# Altium schematic symbol library Schlib1.SchLib: 67 symbols (part 2 of 2)

## NPB02SVAN-RC
designator LINK?, comment LINK  (mechanical)
2 Position Single Circuit 1.27 mm Center Close Top Jumper; Manufacturer: Sullins; Manufacturer Part Number: NPB02SVAN-RC; Number of Positions: 2; Pitch: 1.27mm; Supplier 1: Digikey; RoHS: Yes; Category: Connectors; Stock 1: 41389; Pricing 1: 1=0.28, 10=0.235, 25=0.2072, 50=0.1902, 100=0.1828, 250=0.16416, 500=0.1567, 1000=0.13058, 2500=0.11939 (USD); Contact Plating: Gold; Housing Material: Nylon; Packaging: Bulk; Series: -; Lead Free: Lead Free; RoHS Compliant: Yes; Flammability Rating: UL94 V-2; ComponentLink1URL: https://datasheet.ciiva.com/16472/270-page108-050-jumper-16472349.pdf?src-supplier=Future+Electronics; ComponentLink1Description: https://datasheet.ciiva.com/16472/270-page108-050-jumper-16472349.pdf?src-supplier=Future+Electronics; ComponentLink2URL: https://datasheet.ciiva.com/767/270-02svan-11499-767884.pdf?src-supplier=Digikey; ComponentLink2Description: https://datasheet.ciiva.com/767/270-02svan-11499-767884.pdf?src-supplier=Digikey; Supplier Part Number 1: S9345-ND

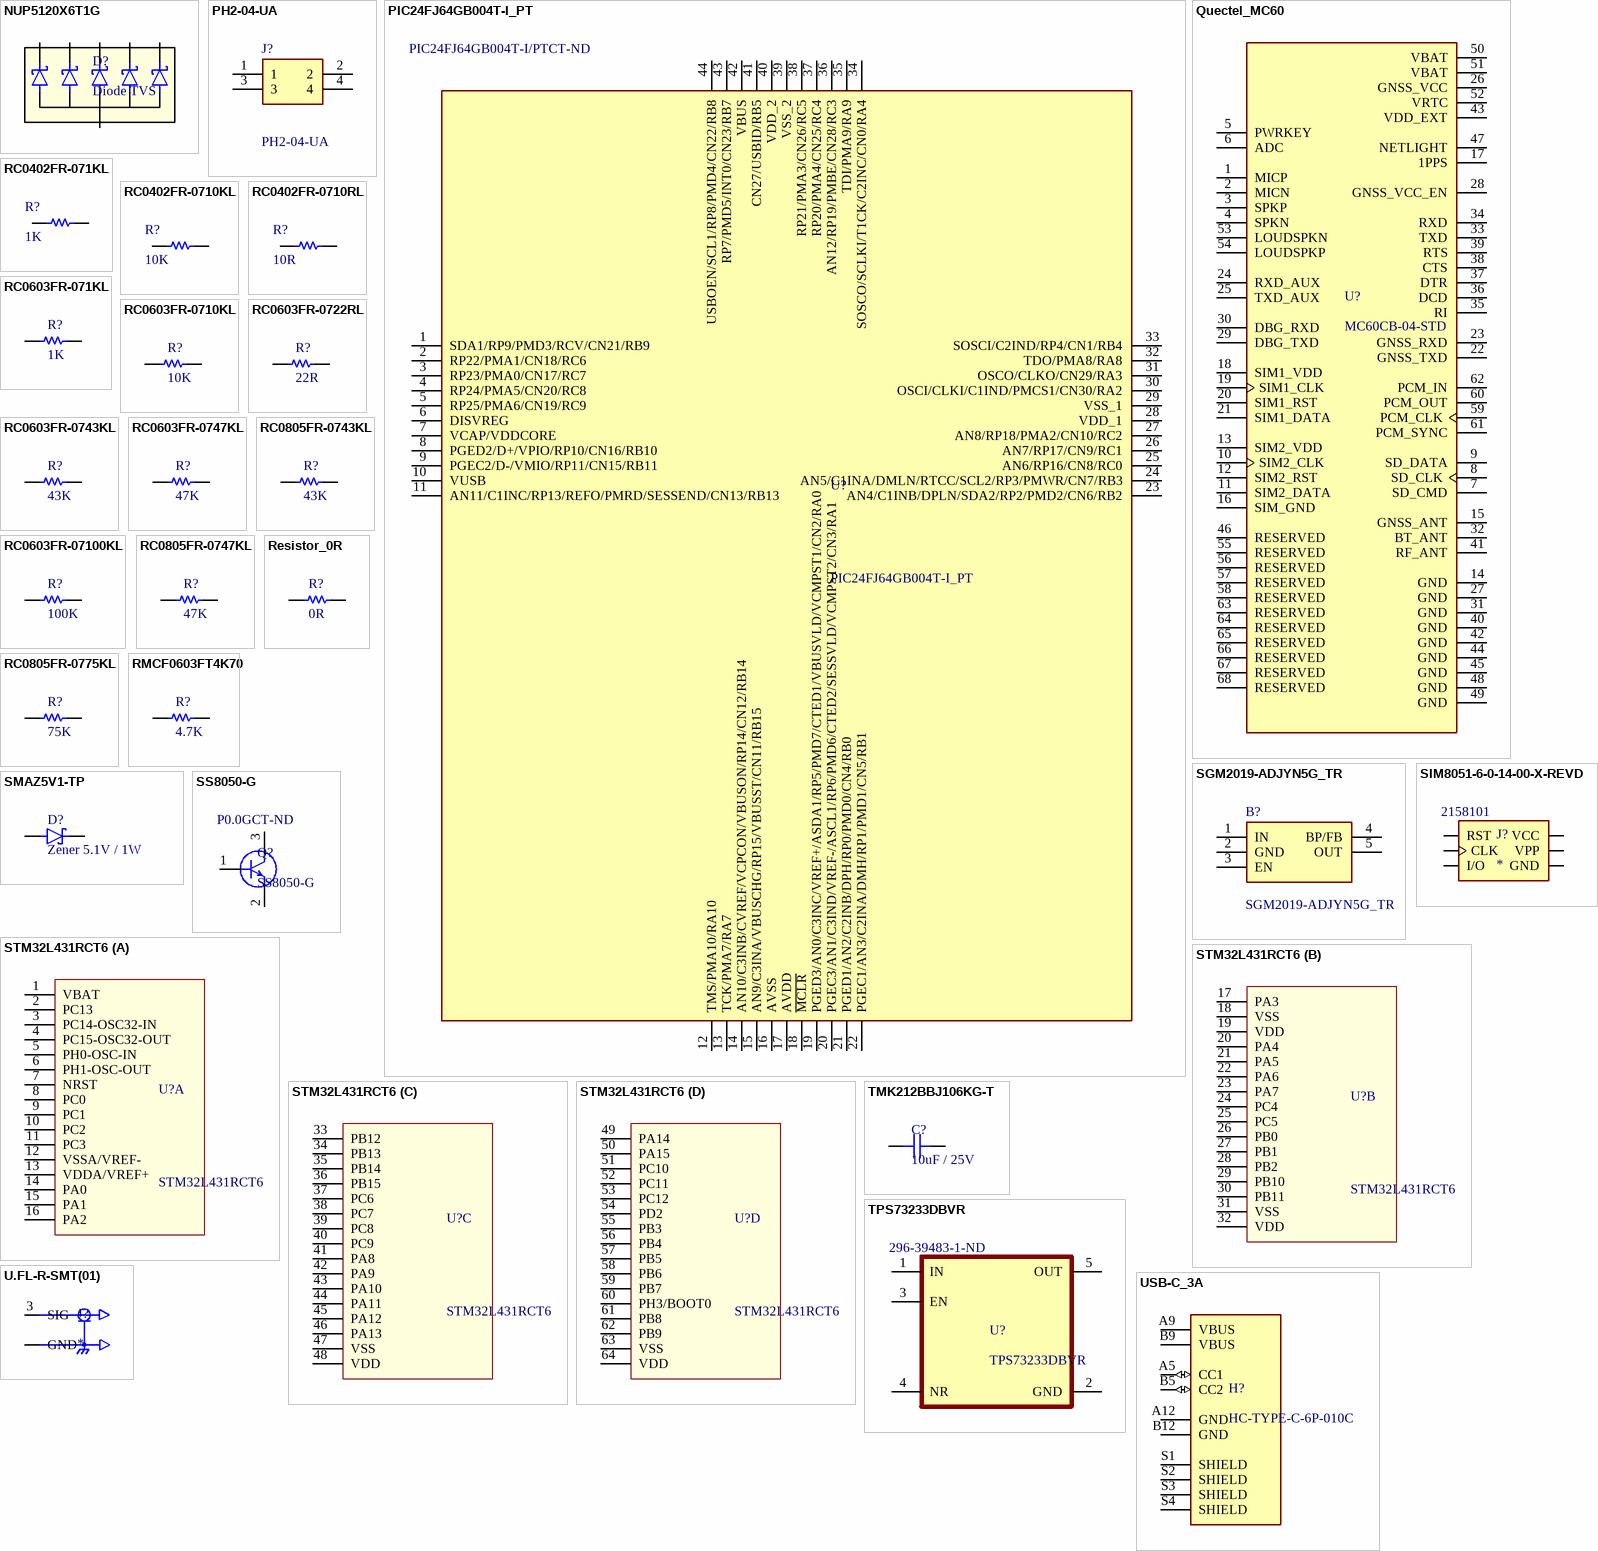
[diagram p1: symbols NUP5120X6T1G to USB-C_3A]

## NUP5120X6T1G
designator D?, comment Diode TVS
ESD Suppressor Diode TVS Uni-Dir 5V 6-Pin SOT-563 T/R / TVS DIODE 5VWM SOT563; Manufacturer: ON Semiconductor; Manufacturer Part Number: NUP5120X6T1G; Supplier 1: Digikey; RoHS: Yes; Category: ESD and Circuit Protection ICs; Stock 1: 14977; Pricing 1: 1=0.47, 10=0.328, 100=0.1658, 500=0.13526, 1000=0.10035, 2000=0.08443 (USD); ComponentLink1URL: https://datasheet.ciiva.com/11194/nup5120-d-11194101.pdf?src-supplier=Avnet; ComponentLink1Description: https://datasheet.ciiva.com/11194/nup5120-d-11194101.pdf?src-supplier=Avnet; ComponentLink2URL: https://datasheet.ciiva.com/4515/nup5120-d-98659-4515682.pdf?src-supplier=Mouser; ComponentLink2Description: https://datasheet.ciiva.com/4515/nup5120-d-98659-4515682.pdf?src-supplier=Mouser; ComponentLink3URL: https://datasheet.ciiva.com/353/nup5120-d-353835.pdf?src-supplier=Digikey; ComponentLink3Description: https://datasheet.ciiva.com/353/nup5120-d-353835.pdf?src-supplier=Digikey
footprint SOT50P160X60-6N
pins: 1 K, 2 A, 3 K, 4 K, 5 K, 6 K

## PH2-04-UA
designator J?
Conn Unshrouded Header HDR 4 POS 2.54mm Solder ST Thru-Hole; Manufacturer_Name: Adam Tech; Geometry.Height: 8.5mm; Mouser Part Number: *; Mouser Price/Stock: *; Manufacturer_Part_Number: PH2-04-UA; Datasheet Link: https://datasheet.datasheetarchive.com/originals/distributors/Datasheets_SAMA/c63e3fe101e7b6e3957e7ad4a1a98367.pdf; Supplier 1: Digikey; Supplier Part Number 1: 2057-PH2-04-UA-ND
footprint HDRV4W64P254_2X2_508X500X850P
pins: 1, 2, 3, 4

## PIC24FJ64GB004T-I_PT
designator U?  Supplier Part Number 1: PIC24FJ64GB004T-I/PTCT-ND
16-bit Microcontrollers - MCU 64KB Flash 8KB RAM nanoWatt; Manufacturer_Name: Microchip; Manufacturer_Part_Number: PIC24FJ64GB004T-I/PT; Geometry.Height: 1.2mm; Mouser Part Number: 579-FJ64GB004T-I/PT; Mouser Price/Stock: https://www.mouser.co.uk/ProductDetail/Microchip-Technology/PIC24FJ64GB004T-I-PT?qs=eGdm2IG0eygtV%252BmcU0v%252BEg%3D%3D; Datasheet Link: http://www.microchip.com/mymicrochip/filehandler.aspx?ddocname=en544251; Supplier 1: Digikey
footprint QFP80P1200X1200X120-44N
pins: 1 SDA1/RP9/PMD3/RCV/CN21/RB9, 2 RP22/PMA1/CN18/RC6, 3 RP23/PMA0/CN17/RC7, 4 RP24/PMA5/CN20/RC8, 5 RP25/PMA6/CN19/RC9, 6 DISVREG, 7 VCAP/VDDCORE, 8 PGED2/D+/VPIO/RP10/CN16/RB10, 9 PGEC2/D-/VMIO/RP11/CN15/RB11, 10 VUSB, 11 AN11/C1INC/RP13/REFO/PMRD/SESSEND/CN13/RB13, 12 TMS/PMA10/RA10, 13 TCK/PMA7/RA7, 14 AN10/C3INB/CVREF/VCPCON/VBUSON/RP14/CN12/RB14, 15 AN9/C3INA/VBUSCHG/RP15/VBUSST/CN11/RB15, 16 AVSS, 17 AVDD, 18 ~{MCLR}, 19 PGED3/AN0/C3INC/VREF+/ASDA1/RP5/PMD7/CTED1/VBUSVLD/VCMPST1/CN2/RA0, 20 PGEC3/AN1/C3IND/VREF-/ASCL1/RP6/PMD6/CTED2/SESSVLD/VCMPST2/CN3/RA1, 21 PGED1/AN2/C2INB/DPH/RP0/PMD0/CN4/RB0, 22 PGEC1/AN3/C2INA/DMH/RP1/PMD1/CN5/RB1, 23 AN4/C1INB/DPLN/SDA2/RP2/PMD2/CN6/RB2, 24 AN5/C1INA/DMLN/RTCC/SCL2/RP3/PMWR/CN7/RB3, 25 AN6/RP16/CN8/RC0, 26 AN7/RP17/CN9/RC1, 27 AN8/RP18/PMA2/CN10/RC2, 28 VDD_1, 29 VSS_1, 30 OSCI/CLKI/C1IND/PMCS1/CN30/RA2, 31 OSCO/CLKO/CN29/RA3, 32 TDO/PMA8/RA8, 33 SOSCI/C2IND/RP4/CN1/RB4, 34 SOSCO/SCLKI/T1CK/C2INC/CN0/RA4, 35 TDI/PMA9/RA9, 36 AN12/RP19/PMBE/CN28/RC3, 37 RP20/PMA4/CN25/RC4, 38 RP21/PMA3/CN26/RC5, 39 VSS_2, 40 VDD_2, 41 CN27/USBID/RB5, 42 VBUS, 43 RP7/PMD5/INT0/CN23/RB7, 44 USBOEN/SCL1/RP8/PMD4/CN22/RB8

## Quectel_MC60
designator U?, comment MC60CB-04-STD
Ultra-small LCC Quad-band GSM/GPRS/GNSS Module; Manufacturer: Quectel Wireless Solutions; MP: MC60; Availability: Unavailable; Package: None; Value: *; Price: None; Supplier 1: Digikey; Manufacturer Part Number: MC60CB-04-STD; RoHS: No; Pricing 1: 250=14.60876, 500=13.60124 (USD); ComponentLink1URL: https://datasheet.octopart.com/MC60CB-04-STD-Quectel-datasheet-163886073.pdf?src-supplier=SOS+electronic; ComponentLink1Description: https://datasheet.octopart.com/MC60CB-04-STD-Quectel-datasheet-163886073.pdf?src-supplier=SOS+electronic; Supplier Part Number 1: 2958-MC60CB-04-STDTR-ND; ComponentLink2Description: Reference Design; ComponentLink2URL: https://sisoog.com/wp-content/uploads/2020/01/Quectel_MC60_Reference_Design_Rev.B_20160801.pdf
footprint XCVR_MC60
pins: 1 MICP, 2 MICN, 3 SPKP, 4 SPKN, 5 PWRKEY, 6 ADC, 7 SD_CMD, 8 SD_CLK, 9 SD_DATA, 10 SIM2_CLK, 11 SIM2_DATA, 12 SIM2_RST, 13 SIM2_VDD, 14 GND, 15 GNSS_ANT, 16 SIM_GND, 17 1PPS, 18 SIM1_VDD, 19 SIM1_CLK, 20 SIM1_RST, 21 SIM1_DATA, 22 GNSS_TXD, 23 GNSS_RXD, 24 RXD_AUX, 25 TXD_AUX, 26 GNSS_VCC, 27 GND, 28 GNSS_VCC_EN, 29 DBG_TXD, 30 DBG_RXD, 31 GND, 32 BT_ANT, 33 TXD, 34 RXD, 35 RI, 36 DCD, 37 DTR, 38 CTS, 39 RTS, 40 GND, 41 RF_ANT, 42 GND, 43 VDD_EXT, 44 GND, 45 GND, 46 RESERVED, 47 NETLIGHT, 48 GND, 49 GND, 50 VBAT, 51 VBAT, 52 VRTC, 53 LOUDSPKN, 54 LOUDSPKP, 55 RESERVED, 56 RESERVED, 57 RESERVED, 58 RESERVED, 59 PCM_CLK, 60 PCM_OUT, 61 PCM_SYNC, 62 PCM_IN, 63 RESERVED, 64 RESERVED, 65 RESERVED, 66 RESERVED, 67 RESERVED, 68 RESERVED

## RC0402FR-071KL
designator R?, comment 1K
SMD Chip Resistor, 1 kOhm, ± 1%, 62.5 mW, 0402 [1005 Metric], Thick Film, General Purpose; Manufacturer: Yageo; Manufacturer Part Number: RC0402FR-071KL; Resistance: 1kR; Temperature Coefficient: 100ppm/°C; Voltage Rating (DC): 50V; Power Rating: 62.5mW; Max Power Dissipation: 63mW; Supplier 1: Digikey; RoHS: Yes; Category: Chip SMD Resistors; Stock 1: 13765092; Pricing 1: 1=0.1, 10=0.015, 50=0.0088, 100=0.0073, 500=0.00488, 1000=0.00417, 5000=0.00297 (USD); Case/Package: 0402; Number of Pins: 2; Case Code (Imperial): 0402; Case Code (Metric): 1005; Size Code: 0402; Min Operating Temperature: -55°C; Max Operating Temperature: 155°C; Tolerance: 1%; Resistor Type: Thick Film; Packaging: Tape and Reel; Voltage Rating: 50V; Termination: SMD/SMT; Features: Moisture Resistant; Series: RC; Number of Terminations: 2; Resistance Tolerance: 1%; Construction: Rectangular; Technology: THICK FILM; Voltage Rating (AC): 50V; Length: 1mm; Width: 0.5mm; Height: 0.32mm; Depth: 0.5mm; Reach SVHC Compliant: No; Lead Free: 5697LeadFree; RoHS Compliant: Yes; Military Standard: Not; ComponentLink1URL: https://datasheet.ciiva.com/11819/0900766b80c66297-11819477.pdf?src-supplier=Rs; ComponentLink1Description: https://datasheet.ciiva.com/11819/0900766b80c66297-11819477.pdf?src-supplier=Rs; ComponentLink2URL: https://datasheet.ciiva.com/7983/1018594-7983502.pdf?src-supplier=Element14; ComponentLink2Description: https://datasheet.ciiva.com/7983/1018594-7983502.pdf?src-supplier=Element14; ComponentLink3URL: https://datasheet.ciiva.com/22747/1018594-22747513.pdf?src-supplier=Element14; ComponentLink3Description: https://datasheet.ciiva.com/22747/1018594-22747513.pdf?src-supplier=Element14; ComponentLink4URL: https://datasheet.ciiva.com/12666/pyu-rc0402-51-rohs-l-6-r-12666741.pdf?src-supplier=Mouser; ComponentLink4Description: https://datasheet.ciiva.com/12666/pyu-rc0402-51-rohs-l-6-r-12666741.pdf?src-supplier=Mouser; ComponentLink5URL: https://datasheet.ciiva.com/7849/1018594-7849869.pdf?src-supplier=Element14; ComponentLink5Description: https://datasheet.ciiva.com/7849/1018594-7849869.pdf?src-supplier=Element14; ComponentLink6URL: https://datasheet.ciiva.com/7849/1018594-7849871.pdf?src-supplier=Element14; ComponentLink6Description: https://datasheet.ciiva.com/7849/1018594-7849871.pdf?src-supplier=Element14; ComponentLink7URL: https://datasheet.ciiva.com/17063/pyu-rc0402-51-rohs-l-6-r-17063193.pdf?src-supplier=Future+Electronics; ComponentLink7Description: https://datasheet.ciiva.com/17063/pyu-rc0402-51-rohs-l-6-r-17063193.pdf?src-supplier=Future+Electronics; Supplier Part Number 1: 311-1.00KLRCT-ND
footprint RC0402N_PAN
pins: 1, 2

## RC0402FR-0710KL
designator R?, comment 10K
SMD Chip Resistor, 10 kOhm, ± 1%, 62.5 mW, 0402 [1005 Metric], Thick Film, General Purpose; Manufacturer: Yageo; Manufacturer Part Number: RC0402FR-0710KL; Voltage Rating (DC): 50V; Resistance: 10kR; Temperature Coefficient: 100ppm/°C; Power Rating: 62.5mW; Max Power Dissipation: 63mW; Supplier 1: Digikey; RoHS: Yes; Category: Chip SMD Resistors; Stock 1: 8451963; Pricing 1: 1=0.1, 10=0.015, 50=0.0088, 100=0.0073, 500=0.00488, 1000=0.00417, 5000=0.00297 (USD); Case/Package: 0402; Number of Pins: 2; Case Code (Imperial): 0402; Case Code (Metric): 1005; Min Operating Temperature: -55°C; Max Operating Temperature: 155°C; Voltage Rating: 50V; Tolerance: 1%; Packaging: Tape and Reel; Termination: SMD/SMT; Resistor Type: Thick Film; Series: RC; Number of Terminations: 2; Features: Moisture Resistant; Resistance Tolerance: 1%; Construction: Rectangular; Length: 1mm; Width: 0.5mm; Depth: 0.5mm; Lead Pitch: 0.2mm; Reach SVHC Compliant: Unknown; Lead Free: 5697LeadFree; RoHS Compliant: Yes; Military Standard: Not; Supplier Part Number 1: 311-10.0KLRCT-ND
footprint RC0402N_PAN
pins: 1, 2

## RC0402FR-0710RL
designator R?, comment 10R
SMD Chip Resistor, 10 Ohm, ± 1%, 62.5 mW, 0402 [1005 Metric], Thick Film, General Purpose; Manufacturer: Yageo; Manufacturer Part Number: RC0402FR-0710RL; Power Rating: 62.5mW; Voltage Rating: 50V; Temperature Coefficient: 200ppm/°C; Max Power Dissipation: 63mW; Supplier 1: Digikey; RoHS: Yes; Category: Chip SMD Resistors; Stock 1: 1945114; Pricing 1: 1=0.1, 10=0.021, 50=0.013, 100=0.0107, 500=0.00714, 1000=0.0061, 5000=0.00438 (USD); Case/Package: 0402; Case Code (Imperial): 0402; Case Code (Metric): 1005; Min Operating Temperature: -55°C; Max Operating Temperature: 155°C; Tolerance: 1%; Resistance: 10R; Packaging: Tape and Reel; Termination: SMD/SMT; Resistor Type: Thick Film; Working Voltage: 50V; Number of Terminations: 2; Features: Moisture Resistant; Series: RC; Resistance Tolerance: 1%; Technology: THICK FILM; Construction: Rectangular; Voltage Rating (AC): 50V; Length: 1mm; Height: 0.32mm; Depth: 0.5mm; Reach SVHC Compliant: No; Military Standard: Not; Lead Free: Lead Free; RoHS Compliant: Yes; ComponentLink1URL: https://datasheet.ciiva.com/11808/0900766b80c66297-11808764.pdf?src-supplier=Rs; ComponentLink1Description: https://datasheet.ciiva.com/11808/0900766b80c66297-11808764.pdf?src-supplier=Rs; ComponentLink2URL: https://datasheet.ciiva.com/46394/1018594-46394954.pdf?src-supplier=Element14; ComponentLink2Description: https://datasheet.ciiva.com/46394/1018594-46394954.pdf?src-supplier=Element14; ComponentLink3URL: https://datasheet.ciiva.com/7849/1018594-7849818.pdf?src-supplier=Element14; ComponentLink3Description: https://datasheet.ciiva.com/7849/1018594-7849818.pdf?src-supplier=Element14; ComponentLink4URL: https://datasheet.ciiva.com/7849/1018594-7849819.pdf?src-supplier=Element14; ComponentLink4Description: https://datasheet.ciiva.com/7849/1018594-7849819.pdf?src-supplier=Element14; ComponentLink5URL: https://datasheet.ciiva.com/15189/getdatasheetpartid-323697-15189339.pdf?src-supplier=Verical; ComponentLink5Description: https://datasheet.ciiva.com/15189/getdatasheetpartid-323697-15189339.pdf?src-supplier=Verical; Supplier Part Number 1: 311-10.0LRCT-ND
footprint RC0402N_PAN
pins: 1, 2

## RC0603FR-071KL
designator R?, comment 1K
SMD Chip Resistor, 1 kOhm, ± 1%, 100 mW, 0603 [1608 Metric], Thick Film, General Purpose; Manufacturer: Yageo; Manufacturer Part Number: RC0603FR-071KL; Resistance: 1kR; Temperature Coefficient: 100ppm/°C; Power Rating: 100mW; Voltage Rating: 50V; Supplier 1: Digikey; RoHS: Yes; Category: Chip SMD Resistors; Stock 1: 13363527; Pricing 1: 1=0.1, 10=0.019, 50=0.0112, 100=0.0093, 500=0.00622, 1000=0.00532 (USD); Case/Package: 0603; Contact Plating: Tin,Matte; Case Code (Imperial): 0603; Case Code (Metric): 1608; Size Code: 0603; Min Operating Temperature: -55°C; Max Operating Temperature: 155°C; Tolerance: 1%; Resistor Type: Thick Film; Packaging: Tape and Reel; Termination: SMD/SMT; Features: Moisture Resistant; Series: RC; Max Power Dissipation: 100mW; Number of Terminations: 2; Technology: THICK FILM; Resistance Tolerance: 1%; Construction: Rectangular; Length: 1.6mm; Height: 0.45mm; Depth: 0.8mm; Reach SVHC Compliant: No; Lead Free: 5697LeadFree; Military Standard: Not; RoHS Compliant: Yes; Supplier Part Number 1: 311-1.00KHRCT-ND
footprint R0603
pins: 1, 2

## RC0603FR-0710KL
designator R?, comment 10K
SMD Chip Resistor, 10 kOhm, ± 1%, 100 mW, 0603 [1608 Metric], Thick Film, General Purpose; Manufacturer: Yageo; Manufacturer Part Number: RC0603FR-0710KL; Voltage Rating (DC): 50V; Resistance: 10kR; Temperature Coefficient: 100ppm/°C; Power Rating: 100mW; Voltage Rating: 75V; Supplier 1: Digikey; RoHS: Yes; Category: Chip SMD Resistors; Stock 1: 17747695; Pricing 1: 1=0.1, 10=0.019, 50=0.0112, 100=0.0093, 500=0.00622, 1000=0.00532 (USD); Case/Package: 0603; Number of Pins: 2; Case Code (Imperial): 0603; Case Code (Metric): 1608; Weight: 7.1E-05oz; Size Code: 0603; Min Operating Temperature: -55°C; Max Operating Temperature: 155°C; Tolerance: 1%; Resistor Type: Thick Film; Packaging: Tape and Reel; Termination: SMD/SMT; Features: Moisture Resistant; Series: RC; Max Power Dissipation: 100mW; Number of Terminations: 2; Resistance Tolerance: 1%; Construction: Rectangular; Length: 1.6mm; Width: 0.8mm; Height: 0.45mm; Depth: 0.8mm; Lead Pitch: 0.3mm; Reach SVHC Compliant: No; Lead Free: 5697LeadFree; Military Standard: Not; RoHS Compliant: Yes; ComponentLink1URL: https://datasheet.ciiva.com/7660/38590-7660789.pdf?src-supplier=Element14; ComponentLink1Description: https://datasheet.ciiva.com/7660/38590-7660789.pdf?src-supplier=Element14; ComponentLink2URL: https://datasheet.ciiva.com/7983/443971-7983596.pdf?src-supplier=Element14; ComponentLink2Description: https://datasheet.ciiva.com/7983/443971-7983596.pdf?src-supplier=Element14; ComponentLink3URL: https://datasheet.ciiva.com/22747/443971-22747519.pdf?src-supplier=Element14; ComponentLink3Description: https://datasheet.ciiva.com/22747/443971-22747519.pdf?src-supplier=Element14; ComponentLink4URL: https://datasheet.ciiva.com/46440/1868787-46440891.pdf?src-supplier=Element14; ComponentLink4Description: https://datasheet.ciiva.com/46440/1868787-46440891.pdf?src-supplier=Element14; ComponentLink5URL: https://datasheet.ciiva.com/7746/1738695-7746239.pdf?src-supplier=Element14; ComponentLink5Description: https://datasheet.ciiva.com/7746/1738695-7746239.pdf?src-supplier=Element14; ComponentLink6URL: https://datasheet.ciiva.com/15189/getdatasheetpartid-409289-15189591.pdf?src-supplier=Verical; ComponentLink6Description: https://datasheet.ciiva.com/15189/getdatasheetpartid-409289-15189591.pdf?src-supplier=Verical; Supplier Part Number 1: 311-10.0KHRCT-ND
footprint R0603
pins: 1, 2

## RC0603FR-0722RL
designator R?, comment 22R
SMD Chip Resistor, 22 Ohm, ± 1%, 100 mW, 0603 [1608 Metric], Thick Film, General Purpose; Manufacturer: Yageo; Manufacturer Part Number: RC0603FR-0722RL; Temperature Coefficient: 100ppm/°C; Voltage Rating (DC): 50V; Power Rating: 100mW; Output Current: 8A; Min Input Voltage: 1.4V; Supplier 1: Digikey; RoHS: Yes; Category: Chip SMD Resistors; Stock 1: 2919304; Pricing 1: 1=0.1, 10=0.019, 50=0.0112, 100=0.0093, 500=0.00622, 1000=0.00532 (USD); Case/Package: 0603; Number of Pins: 2; Case Code (Metric): 1608; Case Code (Imperial): 0603; Size Code: 0603; Min Operating Temperature: -55°C; Max Operating Temperature: 155°C; Tolerance: 1%; Resistance: 22R; Resistor Type: Thick Film; Packaging: Tape and Reel; Voltage Rating: 50V; Package Quantity: 1; Number of Terminations: 2; Termination: SMD/SMT; Max Power Dissipation: 100mW; Features: Moisture Resistant; Series: RC; Resistance Tolerance: 1%; Technology: THICK FILM; Construction: Rectangular; Voltage Rating (AC): 50V; Max Output Current: 8A; Length: 0.063inch; Width: 0.031inch; Height: 0.022inch; Depth: 0.8mm; Radiation Hardening: 5898YesNo; Reach SVHC Compliant: No; Lead Free: 5697LeadFree; Military Standard: Not; RoHS Compliant: Yes; ComponentLink1URL: https://datasheet.ciiva.com/11819/0900766b80f96399-11819285.pdf?src-supplier=Rs; ComponentLink1Description: https://datasheet.ciiva.com/11819/0900766b80f96399-11819285.pdf?src-supplier=Rs; ComponentLink2URL: https://datasheet.ciiva.com/46395/443971-46395032.pdf?src-supplier=Element14; ComponentLink2Description: https://datasheet.ciiva.com/46395/443971-46395032.pdf?src-supplier=Element14; ComponentLink3URL: https://datasheet.ciiva.com/46440/1868787-46440901.pdf?src-supplier=Element14; ComponentLink3Description: https://datasheet.ciiva.com/46440/1868787-46440901.pdf?src-supplier=Element14; ComponentLink4URL: https://datasheet.ciiva.com/2454/pyu-r-int-thick-7-2454355.pdf?src-supplier=Digikey; ComponentLink4Description: https://datasheet.ciiva.com/2454/pyu-r-int-thick-7-2454355.pdf?src-supplier=Digikey; ComponentLink5URL: https://datasheet.ciiva.com/2454/pyu-r-int-thick-7-2454356.pdf?src-supplier=Digikey; ComponentLink5Description: https://datasheet.ciiva.com/2454/pyu-r-int-thick-7-2454356.pdf?src-supplier=Digikey; ComponentLink6URL: https://datasheet.ciiva.com/2454/pyu-r-int-thick-7-2454354.pdf?src-supplier=Digikey; ComponentLink6Description: https://datasheet.ciiva.com/2454/pyu-r-int-thick-7-2454354.pdf?src-supplier=Digikey; Supplier Part Number 1: 311-22.0HRCT-ND
footprint R0603
pins: 1, 2

## RC0603FR-0743KL
designator R?, comment 43K
SMD Chip Resistor, 43 kOhm, ± 1%, 100 mW, 0603 [1608 Metric], Thick Film, General Purpose; Manufacturer: Yageo; Manufacturer Part Number: RC0603FR-0743KL; Supplier 1: Digikey; RoHS: Yes; Category: Chip SMD Resistors; Stock 1: 247984; Pricing 1: 1=0.1, 10=0.02, 50=0.012, 100=0.0099, 500=0.00662, 1000=0.00565 (USD); ComponentLink1URL: https://datasheet.ciiva.com/2454/pyu-r-int-thick-7-2454879.pdf?src-supplier=Digikey; ComponentLink1Description: https://datasheet.ciiva.com/2454/pyu-r-int-thick-7-2454879.pdf?src-supplier=Digikey; ComponentLink2URL: https://datasheet.ciiva.com/2454/pyu-r-int-thick-7-2454880.pdf?src-supplier=Digikey; ComponentLink2Description: https://datasheet.ciiva.com/2454/pyu-r-int-thick-7-2454880.pdf?src-supplier=Digikey; ComponentLink3URL: https://datasheet.ciiva.com/2454/pyu-r-int-thick-7-2454881.pdf?src-supplier=Digikey; ComponentLink3Description: https://datasheet.ciiva.com/2454/pyu-r-int-thick-7-2454881.pdf?src-supplier=Digikey; ComponentLink4URL: https://datasheet.ciiva.com/12558/rc0603-272842-12558507.pdf?src-supplier=Mouser; ComponentLink4Description: https://datasheet.ciiva.com/12558/rc0603-272842-12558507.pdf?src-supplier=Mouser; Supplier Part Number 1: 311-43.0KHRCT-ND
footprint R0603
pins: 1, 2

## RC0603FR-0747KL
designator R?, comment 47K
SMD Chip Resistor, 47 kOhm, ± 1%, 100 mW, 0603 [1608 Metric], Thick Film, General Purpose; Manufacturer: Yageo; Manufacturer Part Number: RC0603FR-0747KL; Resistance: 47kR; Temperature Coefficient: 100ppm/°C; Voltage Rating (DC): 50V; Power Rating: 100mW; Capacitance: 18pF; Supplier 1: Digikey; RoHS: Yes; Category: Chip SMD Resistors; Stock 1: 9355350; Pricing 1: 1=0.1, 10=0.019, 50=0.0112, 100=0.0093, 500=0.00622, 1000=0.00532 (USD); Case/Package: 0603; Number of Pins: 2; Case Code (Metric): 1608; Case Code (Imperial): 0603; Size Code: 0603; Min Operating Temperature: -55°C; Max Operating Temperature: 155°C; Tolerance: 1%; Resistor Type: Thick Film; Packaging: Tape and Reel; Voltage Rating: 50V; Package Quantity: 1; Number of Terminations: 2; Termination: SMD/SMT; Max Power Dissipation: 100mW; Features: Moisture Resistant; Series: RC; Resistance Tolerance: 1%; Technology: THICK FILM; Voltage Rating (AC): 50V; Length: 0.063inch; Width: 0.031inch; Height: 0.022inch; Depth: 0.8mm; Radiation Hardening: 5898YesNo; Reach SVHC Compliant: Unknown; Lead Free: 5697LeadFree; RoHS Compliant: Yes; Supplier Part Number 1: 311-47.0KHRCT-ND
footprint R0603
pins: 1, 2

## RC0603FR-07100KL
designator R?, comment 100K
SMD Chip Resistor, 100 kOhm, ± 1%, 100 mW, 0603 [1608 Metric], Thick Film, General Purpose; Manufacturer: Yageo; Manufacturer Part Number: RC0603FR-07100KL; Resistance: 100kR; Temperature Coefficient: 100ppm/°C; Voltage Rating (DC): 50V; Power Rating: 100mW; Supplier 1: Digikey; RoHS: Yes; Category: Chip SMD Resistors; Stock 1: 2947780; Pricing 1: 1=0.1, 10=0.019, 50=0.0112, 100=0.0093, 500=0.00622, 1000=0.00532 (USD); Case/Package: 0603; Number of Pins: 2; Case Code (Imperial): 0603; Case Code (Metric): 1608; Min Operating Temperature: -55°C; Max Operating Temperature: 155°C; Tolerance: 1%; Resistor Type: Thick Film; Packaging: Tape and Reel; Voltage Rating: 50V; Termination: SMD/SMT; Number of Terminations: 2; Features: Moisture Resistant; Series: RC; Max Power Dissipation: 100mW; Resistance Tolerance: 1%; Construction: Rectangular; Technology: THICK FILM; Length: 1.6mm; Width: 0.8mm; Height: 0.45mm; Depth: 0.8mm; Reach SVHC Compliant: No; Lead Free: 5697LeadFree; Military Standard: Not; RoHS Compliant: Yes; Supplier Part Number 1: 311-100KHRCT-ND
footprint R0603
pins: 1, 2

## RC0805FR-0743KL
designator R?, comment 43K
Res Thick Film 0805 43K Ohm 1% 0.125W(1/8W) ±100ppm/C Pad SMD T/R; Manufacturer: Yageo; Manufacturer Part Number: RC0805FR-0743KL; Supplier 1: Digikey; RoHS: Yes; Category: Chip SMD Resistors; Stock 1: 332979; Pricing 1: 1=0.1, 10=0.025, 50=0.016, 100=0.0133, 500=0.00912, 1000=0.00787 (USD); ComponentLink1URL: https://datasheet.ciiva.com/11819/0900766b8106beab-11819846.pdf?src-supplier=Rs; ComponentLink1Description: https://datasheet.ciiva.com/11819/0900766b8106beab-11819846.pdf?src-supplier=Rs; ComponentLink2URL: https://datasheet.ciiva.com/2491/pyu-r-int-thick-7-2491684.pdf?src-supplier=Digikey; ComponentLink2Description: https://datasheet.ciiva.com/2491/pyu-r-int-thick-7-2491684.pdf?src-supplier=Digikey; ComponentLink3URL: https://datasheet.ciiva.com/2491/pyu-r-int-thick-7-2491686.pdf?src-supplier=Digikey; ComponentLink3Description: https://datasheet.ciiva.com/2491/pyu-r-int-thick-7-2491686.pdf?src-supplier=Digikey; ComponentLink4URL: https://datasheet.ciiva.com/5558/rc0805-5558262.pdf?src-supplier=Mouser; ComponentLink4Description: https://datasheet.ciiva.com/5558/rc0805-5558262.pdf?src-supplier=Mouser; ComponentLink5URL: https://datasheet.ciiva.com/2491/pyu-r-int-thick-7-2491685.pdf?src-supplier=Digikey; ComponentLink5Description: https://datasheet.ciiva.com/2491/pyu-r-int-thick-7-2491685.pdf?src-supplier=Digikey; Supplier Part Number 1: 311-43.0KCRCT-ND
footprint R0805
pins: 1, 2

## RC0805FR-0747KL
designator R?, comment 47K
SMD Chip Resistor, 47 kOhm, ± 1%, 125 mW, 0805 [2012 Metric], Thick Film, General Purpose; Manufacturer: Yageo; Manufacturer Part Number: RC0805FR-0747KL; Resistance: 47kR; Temperature Coefficient: 100ppm/°C; Voltage Rating (DC): 150V; Power Rating: 125mW; Supplier 1: Digikey; RoHS: Yes; Category: Chip SMD Resistors; Stock 1: 554330; Pricing 1: 1=0.1, 10=0.025, 50=0.016, 100=0.0133, 500=0.00912, 1000=0.00787 (USD); Case/Package: 0805; Number of Pins: 2; Contact Plating: Tin,Matte; Case Code (Imperial): 0805; Case Code (Metric): 2012; Size Code: 0805; Min Operating Temperature: -55°C; Max Operating Temperature: 155°C; Tolerance: 1%; Packaging: Tape and Reel; Resistor Type: Thick Film; Number of Terminations: 2; Working Voltage: 150V; Voltage Rating: 150V; Termination: SMD/SMT; Features: Moisture Resistant; Series: RC; Max Power Dissipation: 125mW; Resistance Tolerance: 1%; Voltage Rating (AC): 150V; Length: 2mm; Width: 1.25mm; Height: 0.5mm; Reach SVHC Compliant: Unknown; Lead Free: 5697LeadFree; RoHS Compliant: Yes; ComponentLink1URL: https://datasheet.ciiva.com/7941/1686128-7941799.pdf?src-supplier=Element14; ComponentLink1Description: https://datasheet.ciiva.com/7941/1686128-7941799.pdf?src-supplier=Element14; ComponentLink2URL: https://datasheet.ciiva.com/46447/444164-46447581.pdf?src-supplier=Element14; ComponentLink2Description: https://datasheet.ciiva.com/46447/444164-46447581.pdf?src-supplier=Element14; ComponentLink3URL: https://datasheet.ciiva.com/7941/444164-7941800.pdf?src-supplier=Element14; ComponentLink3Description: https://datasheet.ciiva.com/7941/444164-7941800.pdf?src-supplier=Element14; ComponentLink4URL: https://datasheet.ciiva.com/7941/444164-7941801.pdf?src-supplier=Element14; ComponentLink4Description: https://datasheet.ciiva.com/7941/444164-7941801.pdf?src-supplier=Element14; ComponentLink5URL: https://datasheet.ciiva.com/16742/rc0805-16742265.pdf?src-supplier=Future+Electronics; ComponentLink5Description: https://datasheet.ciiva.com/16742/rc0805-16742265.pdf?src-supplier=Future+Electronics; Supplier Part Number 1: 311-47.0KCRCT-ND
footprint R0805
pins: 1, 2

## RC0805FR-0775KL
designator R?, comment 75K
SMD Chip Resistor, 75 kOhm, ± 1%, 125 mW, 0805 [2012 Metric], Thick Film, General Purpose; Manufacturer: Yageo; Manufacturer Part Number: RC0805FR-0775KL; Voltage Rating (DC): 150V; Supplier 1: Digikey; RoHS: Yes; Category: Chip SMD Resistors; Stock 1: 146339; Pricing 1: 1=0.1, 10=0.025, 50=0.016, 100=0.0133, 500=0.00912, 1000=0.00787 (USD); Lead Free: 5697LeadFree; ComponentLink1URL: https://datasheet.ciiva.com/11819/0900766b8106beab-11819869.pdf?src-supplier=Rs; ComponentLink1Description: https://datasheet.ciiva.com/11819/0900766b8106beab-11819869.pdf?src-supplier=Rs; ComponentLink2URL: https://datasheet.ciiva.com/15190/getdatasheetpartid-328011-15190012.pdf?src-supplier=Verical; ComponentLink2Description: https://datasheet.ciiva.com/15190/getdatasheetpartid-328011-15190012.pdf?src-supplier=Verical; ComponentLink3URL: https://datasheet.ciiva.com/2458/pyu-r-int-thick-7-2458028.pdf?src-supplier=Digikey; ComponentLink3Description: https://datasheet.ciiva.com/2458/pyu-r-int-thick-7-2458028.pdf?src-supplier=Digikey; ComponentLink4URL: https://datasheet.ciiva.com/2458/pyu-r-int-thick-7-2458029.pdf?src-supplier=Digikey; ComponentLink4Description: https://datasheet.ciiva.com/2458/pyu-r-int-thick-7-2458029.pdf?src-supplier=Digikey; ComponentLink5URL: https://datasheet.ciiva.com/2458/pyu-r-int-thick-7-2458030.pdf?src-supplier=Digikey; ComponentLink5Description: https://datasheet.ciiva.com/2458/pyu-r-int-thick-7-2458030.pdf?src-supplier=Digikey; Supplier Part Number 1: 311-75.0KCRCT-ND
footprint R0805
pins: 1, 2

## Resistor_0R
designator R?, comment 0R
Res Thick Film 0805 0 Ohm 1% 1/8W ±100ppm/°C SMD Paper T/R; Manufacturer: Yageo; Manufacturer Part Number: RC0805FR-132K2L; Power Rating: 125mW; Voltage Rating: 150V; Supplier 1: Digi-Key; Stock 1: 71554; Pricing 1: 1=0.1, 10=0.042, 100=0.0169, 1000=0.0076, 2500=0.0066, 5000=0.0054 (USD); Case/Package: 0805; Contact Plating: Tin,Lead; Case Code (Imperial): 0805; Case Code (Metric): 2012; Min Operating Temperature: -55°C; Max Operating Temperature: 155°C; Resistance: 0R; Tolerance: 1%; Resistor Type: Thick Film; Temperature Coefficient: 100ppm/°C; Packaging: Tape and Reel; Termination: SMD/SMT; Series: RC; Length: 2mm; Width: 1.25mm; Height: 0.5mm; Radiation Hardening: No; RoHS Compliant: Yes; ComponentLink1URL: http://www.mouser.com/ds/2/447/Yageo_08112016_RC0805-968729.pdf?src-supplier=Mouser; ComponentLink1Description: http://www.mouser.com/ds/2/447/Yageo_08112016_RC0805-968729.pdf?src-supplier=Mouser; Supplier Part Number 1: 13-RC0805FR-132K2LCT-ND
footprint C0805
pins: 1, 2

## RMCF0603FT4K70
designator R?, comment 4.7K
Res Thick Film 0603 4.7K Ohm 1% 1/10W ±100ppm/°C Molded SMD SMD Paper T/R; Manufacturer: Stackpole Electronics; Manufacturer Part Number: RMCF0603FT4K70; Resistance: 4.7kR; Max Power Dissipation: 100mW; Voltage Rating: 75V; Supplier 1: Digikey; RoHS: Yes; Category: Chip SMD Resistors; Stock 1: 1551594; Pricing 1: 1=0.1, 10=0.015, 50=0.009, 100=0.0075, 500=0.00498, 1000=0.00425 (USD); Mount: Surface Mount; Case/Package: 0603; Case Code (Metric): 1608; Case Code (Imperial): 0603; Contact Plating: Tin,Matte; Min Operating Temperature: -55°C; Max Operating Temperature: 155°C; Packaging: Tape and Reel; Tolerance: 1%; Number of Terminations: 2; Temperature Coefficient: 100ppm/°C; Features: Automotive AEC-Q200; Series: RMCF; Construction: Rectangular; Length: 0.061inch; Width: 0.031inch; Height: 0.022inch; Depth: 0.8mm; Radiation Hardening: No; Military Standard: Not; Lead Free: Lead Free; RoHS Compliant: Yes; ComponentLink1URL: https://datasheet.ciiva.com/26835/getdatasheetpartid-486078-26835642.pdf?src-supplier=Verical; ComponentLink1Description: https://datasheet.ciiva.com/26835/getdatasheetpartid-486078-26835642.pdf?src-supplier=Verical; Supplier Part Number 1: RMCF0603FT4K70CT-ND
footprint R0603
pins: 1, 2

## SGM2019-ADJYN5G_TR
designator B?
st; Manufacturer_Name: SGMICRO; Manufacturer_Part_Number: SGM2019-ADJYN5G/TR; Geometry.Height: 1.25mm; Arrow Part Number: SGM2019-ADJYN5G/TR; Arrow Price/Stock: *; Datasheet Link: *
footprint SOT95P280X125-5N
pins: 1 IN, 2 GND, 3 EN, 4 BP/FB, 5 OUT

## SIM8051-6-0-14-00-X-REVD
designator J?  Supplier Part Number 1: 2158101
SIM Nano Push Pull 6P1.35mmH with Logo 3µ" Gold No Peg; Manufacturer: Global Connector Technology; Manufacturer Part Number: SIM8051-6-0-14-00-A; MP: SIM8051-6-0-14-00-X-REVD; Price: None; Value: *; Package: None; Availability: Unavailable; Supplier 1: Future Electronics; RoHS: Yes; Category: Connectors; Pricing 1: 1500=0.52, 3000=0.51, 4500=0.5 (USD); ComponentLink1URL: https://datasheet.octopart.com/SIM8051-6-0-14-00-A-Global-Connector-Technology-datasheet-78375543.pdf?src-supplier=Future+Electronics; ComponentLink1Description: https://datasheet.octopart.com/SIM8051-6-0-14-00-A-Global-Connector-Technology-datasheet-78375543.pdf?src-supplier=Future+Electronics; ComponentLink2URL: https://gct.co/files/drawings/sim8051.pdf?src-supplier=Digikey; ComponentLink2Description: https://gct.co/files/drawings/sim8051.pdf?src-supplier=Digikey; ComponentLink3URL: https://datasheet.octopart.com/SIM8051-6-0-14-00-A-Global-Connector-Technology-datasheet-91940710.pdf?src-supplier=Newark; ComponentLink3Description: https://datasheet.octopart.com/SIM8051-6-0-14-00-A-Global-Connector-Technology-datasheet-91940710.pdf?src-supplier=Newark; ComponentLink4Description: Shop; ComponentLink4URL: https://eshop.eca.ir/%D8%B3%D9%88%DA%A9%D8%AA-%D8%AD%D8%A7%D9%81%D8%B8%D9%87-%D9%88-%D8%B3%DB%8C%D9%85-%DA%A9%D8%A7%D8%B1%D8%AA/10211-%D8%B3%D9%88%DA%A9%D8%AA-%D8%B3%DB%8C%D9%85-%DA%A9%D8%A7%D8%B1%D8%AA-%D9%86%D8%A7%D9%86%D9%88-6pin-%D9%BE%D9%84%D8%A7%D8%B3%D8%AA%DB%8C%DA%A9%DB%8C-%D8%A8%D8%A7-%D9%87%D9%88%D9%84%D8%AF%D8%B1-%D9%81%D9%84%D8%B2%DB%8C.html
footprint GCT_SIM8051-6-0-14-00-X-REVD
pins: C1 VCC, C2 RST, C3 CLK, C5 GND, C6 VPP, C7 I/O

## SMAZ5V1-TP
designator D?, comment Zener 5.1V / 1W
SMAZ5V1 Series 5.1 V ±5% 1 W Surface Mount Zener Diode - DO-214AC (SMAJ); Manufacturer: MCC; Manufacturer Part Number: SMAZ5V1-TP; Supplier 1: Digikey; RoHS: Yes; Category: Zener Diodes; Stock 1: 76988; Pricing 1: 1=0.35, 10=0.273, 100=0.1636, 500=0.1515, 1000=0.10302, 2000=0.09484 (USD); ComponentLink1URL: https://datasheet.ciiva.com/26889/getdatasheetpartid-656879-26889995.pdf?src-supplier=Verical; ComponentLink1Description: https://datasheet.ciiva.com/26889/getdatasheetpartid-656879-26889995.pdf?src-supplier=Verical; ComponentLink2URL: https://datasheet.ciiva.com/893/smaz5v1-smaz39do-214ac-893110.pdf?src-supplier=Digikey; ComponentLink2Description: https://datasheet.ciiva.com/893/smaz5v1-smaz39do-214ac-893110.pdf?src-supplier=Digikey; ComponentLink3URL: https://datasheet.ciiva.com/893/smaz5v1-smaz39do-214ac-893111.pdf?src-supplier=Digikey; ComponentLink3Description: https://datasheet.ciiva.com/893/smaz5v1-smaz39do-214ac-893111.pdf?src-supplier=Digikey; ComponentLink4URL: https://datasheet.ciiva.com/893/smaz5v1-smaz39do-214ac-893112.pdf?src-supplier=Digikey; ComponentLink4Description: https://datasheet.ciiva.com/893/smaz5v1-smaz39do-214ac-893112.pdf?src-supplier=Digikey; Supplier Part Number 1: SMAZ5V1-TPMSCT-ND
footprint D0-214AC
pins: 1 K, 2 A

## SS8050-G
designator Q?  Supplier Part Number 2: P0.0GCT-ND
Res Thick Film 0603 0 Ohm Molded SMD SMD Punched Carrier T/R; Manufacturer: Comchip; Max Collector Current: 1.5A; Max Power Dissipation: 300mW; Transition Frequency: 100MHz; Collector Emitter Breakdown Voltage: 25V; Collector-emitter Voltage-Max: 400mV; Collector Base Voltage (VCBO): 40V; Collector Emitter Saturation Voltage: 500mV; Emitter Base Voltage (VEBO): 5V; hFE Min: 200NUMBER; Number of Elements: 1NUMBER; Resistance: 0R; Power Rating: 100mW; Voltage Rating: 75V; Tolerance: 0%; Temperature Coefficient: 200ppm/°C; Voltage Rating (DC): 50V; Supplier 1: Digikey; Manufacturer Part Number: SS8050-G; RoHS: Yes; Category: Transistors; Stock 1: 169203; Pricing 1: 1=0.29, 10=0.2, 100=0.0978, 500=0.08154, 1000=0.05666 (USD); Mount: Surface Mount; Case/Package: TO-236-3; Max Operating Temperature: 150°C; Packaging: Cut Tape; Max Breakdown Voltage: 25V; Series: -; Power Dissipation: 300mW; Height: 1.15mm; RoHS Compliant: Yes; ComponentLink1URL: http://www.comchiptech.com/admin/files/product/SS8050-G RevA181526.pdf?src-supplier=Digikey; ComponentLink1Description: http://www.comchiptech.com/admin/files/product/SS8050-G RevA181526.pdf?src-supplier=Digikey; Supplier Part Number 1: 641-1790-1-ND; Supplier 2: Digikey; Stock 2: 5352218; Pricing 2: 1=0.1, 10=0.037, 25=0.028, 50=0.0214, 100=0.015, 250=0.01204, 500=0.00964, 1000=0.0071 (USD); Contact Plating: Tin; Case Code (Metric): 1608; Case Code (Imperial): 0603; Size Code: 0603; Min Operating Temperature: -55°C; Resistor Type: Thick Film; Package Quantity: 5000; Number of Terminations: 2; Termination: SMD/SMT; Features: Automotive AEC-Q200; Construction: Rectangular; Technology: THICK FILM; Length: 1.6mm; Width: 0.8mm; Depth: 0.8mm; Ratings: AEC-Q200; Radiation Hardening: No; Reach SVHC Compliant: No; Military Standard: Not; Lead Free: 5697LeadFree; ComponentLink2URL: https://datasheet.ciiva.com/27055/1935748-27055113.pdf?src-supplier=Jameco; ComponentLink2Description: https://datasheet.ciiva.com/27055/1935748-27055113.pdf?src-supplier=Jameco; ComponentLink3URL: https://datasheet.ciiva.com/11808/0900766b80f806dd-11808207.pdf?src-supplier=Rs; ComponentLink3Description: https://datasheet.ciiva.com/11808/0900766b80f806dd-11808207.pdf?src-supplier=Rs; ComponentLink4URL: https://datasheet.ciiva.com/46377/1678796-46377868.pdf?src-supplier=Element14; ComponentLink4Description: https://datasheet.ciiva.com/46377/1678796-46377868.pdf?src-supplier=Element14; ComponentLink5URL: https://datasheet.ciiva.com/28695/1678796-28695833.pdf?src-supplier=Element14; ComponentLink5Description: https://datasheet.ciiva.com/28695/1678796-28695833.pdf?src-supplier=Element14; ComponentLink6URL: https://datasheet.ciiva.com/16834/aoa0000ce1-16834828.pdf?src-supplier=Future+Electronics; ComponentLink6Description: https://datasheet.ciiva.com/16834/aoa0000ce1-16834828.pdf?src-supplier=Future+Electronics; ComponentLink7URL: https://datasheet.ciiva.com/48532/aoa0000ce1-48532165.pdf?src-supplier=Avnet; ComponentLink7Description: https://datasheet.ciiva.com/48532/aoa0000ce1-48532165.pdf?src-supplier=Avnet; ComponentLink8URL: https://datasheet.ciiva.com/5959/1678796-5959707.pdf?src-supplier=Farnell; ComponentLink8Description: https://datasheet.ciiva.com/5959/1678796-5959707.pdf?src-supplier=Farnell; ComponentLink9URL: https://datasheet.ciiva.com/16758/70255313-16758527.pdf?src-supplier=Allied+Electronics; ComponentLink9Description: https://datasheet.ciiva.com/16758/70255313-16758527.pdf?src-supplier=Allied+Electronics; ComponentLink10URL: https://datasheet.ciiva.com/9198/aoa0000ce1-9198975.pdf?src-supplier=Avnet; ComponentLink10Description: https://datasheet.ciiva.com/9198/aoa0000ce1-9198975.pdf?src-supplier=Avnet; ComponentLink11URL: https://datasheet.ciiva.com/30199/4aoa0000ce1-30199822.pdf?src-supplier=Onlinecomponents.com; ComponentLink11Description: https://datasheet.ciiva.com/30199/4aoa0000ce1-30199822.pdf?src-supplier=Onlinecomponents.com; ComponentLink12URL: https://datasheet.ciiva.com/43460/1678796-43460647.pdf?src-supplier=Farnell; ComponentLink12Description: https://datasheet.ciiva.com/43460/1678796-43460647.pdf?src-supplier=Farnell
footprint SOT95P237X112-3N
pins: 1 B, 2 E, 3 C

## STM32L431RCT6
designator U?
STMICROELECTRONICS - STM32L412K8U6 - MCU, 32BIT, 80MHZ; Geometry.Height: 0.6mm; Mouser Part Number: 511-STM32L412K8U6; Mouser Price/Stock: https://www.mouser.co.uk/ProductDetail/STMicroelectronics/STM32L412K8U6?qs=l7cgNqFNU1iqBWKB4DHwcA%3D%3D; Manufacturer_Name: STMicroelectronics; Manufacturer_Part_Number: STM32L412K8U6; Datasheet Link: https://www.st.com/resource/en/datasheet/stm32l412k8.pdf; Supplier 1: Digikey
part A pins: 1 VBAT, 2 PC13, 3 PC14-OSC32-IN, 4 PC15-OSC32-OUT, 5 PH0-OSC-IN, 6 PH1-OSC-OUT, 7 NRST, 8 PC0, 9 PC1, 10 PC2, 11 PC3, 12 VSSA/VREF-, 13 VDDA/VREF+, 14 PA0, 15 PA1, 16 PA2
part B pins: 17 PA3, 18 VSS, 19 VDD, 20 PA4, 21 PA5, 22 PA6, 23 PA7, 24 PC4, 25 PC5, 26 PB0, 27 PB1, 28 PB2, 29 PB10, 30 PB11, 31 VSS, 32 VDD
part C pins: 33 PB12, 34 PB13, 35 PB14, 36 PB15, 37 PC6, 38 PC7, 39 PC8, 40 PC9, 41 PA8, 42 PA9, 43 PA10, 44 PA11, 45 PA12, 46 PA13, 47 VSS, 48 VDD
part D pins: 49 PA14, 50 PA15, 51 PC10, 52 PC11, 53 PC12, 54 PD2, 55 PB3, 56 PB4, 57 PB5, 58 PB6, 59 PB7, 60 PH3/BOOT0, 61 PB8, 62 PB9, 63 VSS, 64 VDD

## TMK212BBJ106KG-T
designator C?, comment 10uF / 25V
Multilayer Ceramic Capacitors (High dielectric type), 25V, 10 uF, ± 10 %, 0805, X5R, RoHS; Manufacturer: Taiyo Yuden; Manufacturer Part Number: TMK212BBJ106KG-T; Material: 4241ConductorMaterial; Tolerance: 10%; Dielectric: X7R; Voltage: 16V; Supplier 1: Digikey; RoHS: Yes; Category: Ceramic Capacitors; Stock 1: 1941290; Pricing 1: 1=0.18, 10=0.118, 50=0.0746, 100=0.0596, 500=0.04306, 1000=0.0381 (USD); Mount: Surface Mount; Case/Package: 0805; Number of Pins: 2NUMBER; Case Code (Metric): 2012; Case Code (Imperial): 0805; Min Operating Temperature: -55°C; Max Operating Temperature: 85°C; Capacitance: 10uF; Packaging: Tape and Reel; Voltage Rating (DC): 25V; Package Quantity: 1; Voltage Rating: 25V; Termination: SMD/SMT; Series: M; Length: 0.079inch; Width: 0.049inch; Height: 1.25mm; Thickness: 0.053inch; Lead Free: 5697LeadFree; Reach SVHC Compliant: No; RoHS Compliant: Yes; ComponentLink1URL: https://datasheet.ciiva.com/30062/tmk212bbj106kg-t-30062083.pdf?src-supplier=Onlinecomponents.com; ComponentLink1Description: https://datasheet.ciiva.com/30062/tmk212bbj106kg-t-30062083.pdf?src-supplier=Onlinecomponents.com; ComponentLink2URL: https://datasheet.ciiva.com/7975/1481447-7975820.pdf?src-supplier=Element14; ComponentLink2Description: https://datasheet.ciiva.com/7975/1481447-7975820.pdf?src-supplier=Element14; ComponentLink3URL: https://datasheet.ciiva.com/139/mlcc-all-e-139571.pdf?src-supplier=Digikey; ComponentLink3Description: https://datasheet.ciiva.com/139/mlcc-all-e-139571.pdf?src-supplier=Digikey; ComponentLink4URL: https://datasheet.ciiva.com/139/mlcc-all-e-139570.pdf?src-supplier=Digikey; ComponentLink4Description: https://datasheet.ciiva.com/139/mlcc-all-e-139570.pdf?src-supplier=Digikey; ComponentLink5URL: https://datasheet.ciiva.com/139/mlcc-all-e-139572.pdf?src-supplier=Digikey; ComponentLink5Description: https://datasheet.ciiva.com/139/mlcc-all-e-139572.pdf?src-supplier=Digikey; Supplier Part Number 1: 587-2985-1-ND
footprint C0805
pins: 1, 2

## TPS73233DBVR
designator U?  Supplier Part Number 1: 296-39483-1-ND
IC REG LDO 3.3V 0.25A SOT23-5; Manufacturer: Texas Instruments; Manufacturer Part Number: TPS73233DBVR; RoHS: Yes; Category: Voltage Regulators - Linear; Stock 1: 7739; Pricing 1: 1=1.6, 10=1.37, 50=1.37, 100=1.05, 1000=0.73, 10000=0.623 (USD); Thickness: 1.2mm; ComponentLink1URL: https://datasheet.ciiva.com/36525/1526987-36525994.pdf?src-supplier=Jameco; ComponentLink1Description: https://datasheet.ciiva.com/36525/1526987-36525994.pdf?src-supplier=Jameco; ComponentLink2URL: https://datasheet.ciiva.com/2062/tps732-2062556.pdf?src-supplier=Digikey; ComponentLink2Description: https://datasheet.ciiva.com/2062/tps732-2062556.pdf?src-supplier=Digikey; ComponentLink3URL: https://datasheet.ciiva.com/14279/sbvs037o-14279119.pdf?src-supplier=Avnet; ComponentLink3Description: https://datasheet.ciiva.com/14279/sbvs037o-14279119.pdf?src-supplier=Avnet; Supplier 1: Digikey
footprint TPS73233DBVR
simulation model ldo_basic (Model Description)
pins: 1 IN, 2 GND, 3 EN, 4 NR, 5 OUT

## U.FL-R-SMT(01)
designator J?
U.FL (UMCC) Connector Receptacle, Male Pin 50Ohm Surface Mount Solder. RF Connectors / Coaxial Connectors; MP: U.FL-R-SMT(01); MF: Hirose; Check_prices: https://www.snapeda.com/parts/U.FL-R-SMT(01)/Hirose+Electric+Co+Ltd/view-part/?ref=eda; Value: *; Availability: In Stock; Price: None; Package: None; SnapEDA_Link: https://www.snapeda.com/parts/U.FL-R-SMT(01)/Hirose+Electric+Co+Ltd/view-part/?ref=snap; Purchase-URL: https://pricing.snapeda.com/search/part/U.FL-R-SMT(01)/?ref=eda
footprint HRS_U.FL-R-SMT(01)
pins: 1 GND, 2 GND, 3 SIG

## USB-C_3A
designator H?, comment HC-TYPE-C-6P-010C
3A USB 3.1 1 260℃ Surface Mount，Right Angle 6P Female -25℃~+85℃ Gold Copper Alloy Type-C SMD USB Connectors ROHS
footprint USB-C_3A
pins: A5 CC1 (io), A9 VBUS (power), A12 GND (power), B5 CC2 (io), B9 VBUS (power), B12 GND (power), S1 SHIELD, S2 SHIELD, S3 SHIELD, S4 SHIELD